# Altium schematic symbol library switch_ic_digital.SchLib: 5 symbols
Pins are listed as number, name and electrical type; pins without a type are passive.

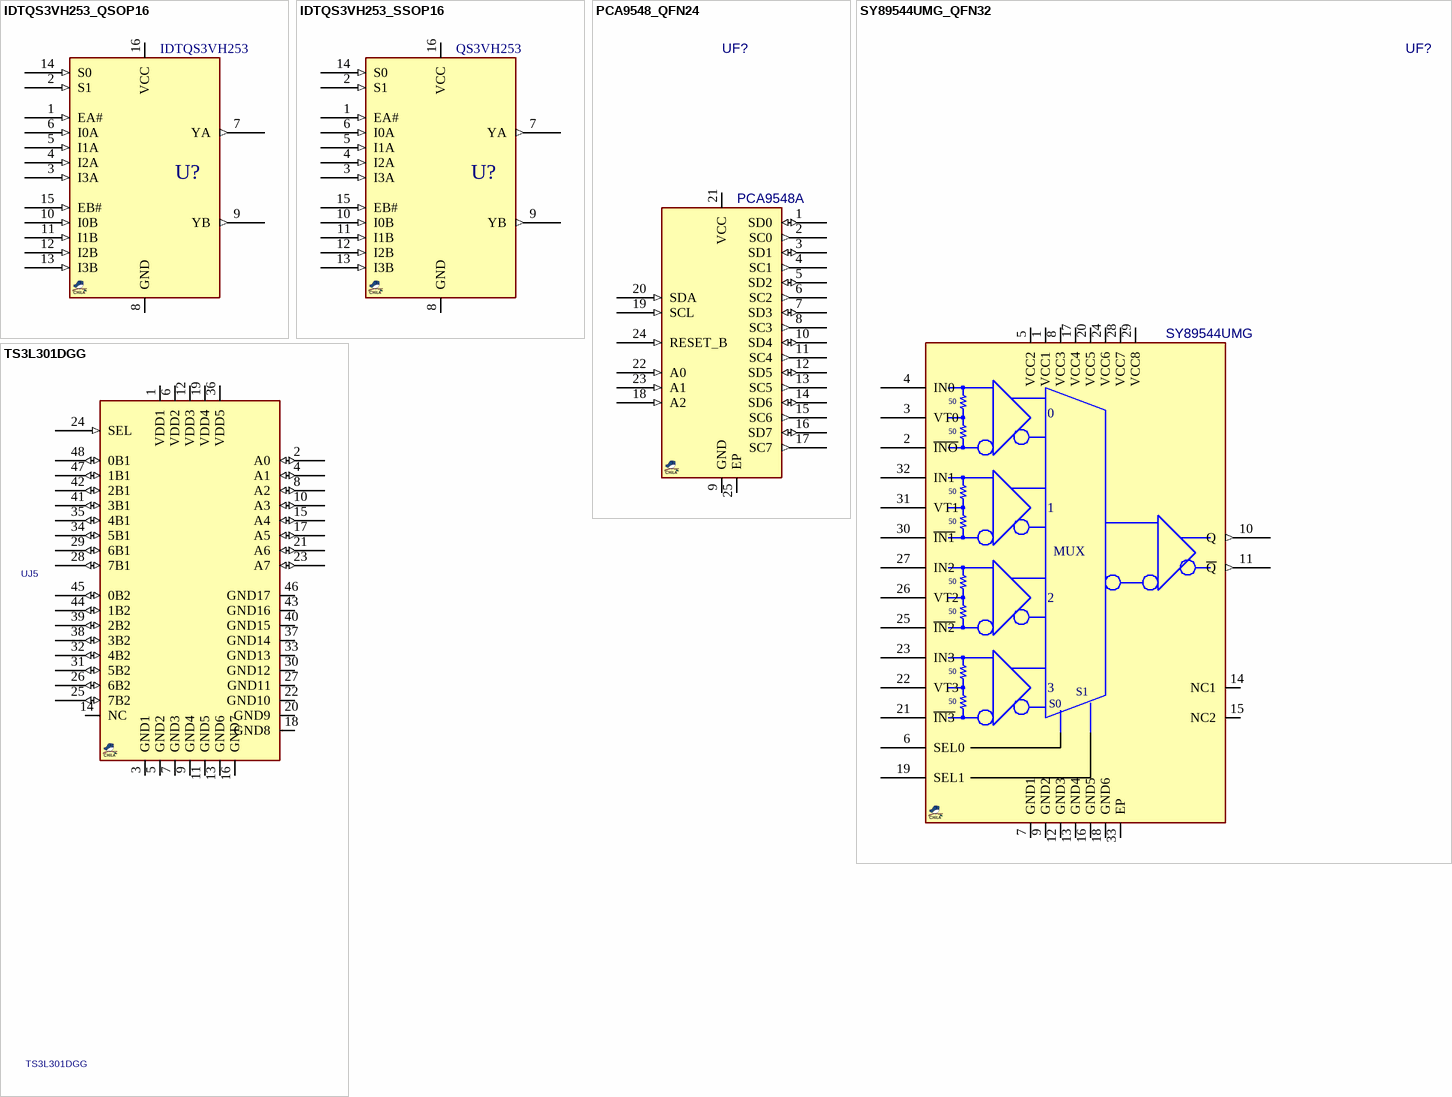
[diagram p0: symbols IDTQS3VH253_QSOP16 to TS3L301DGG]

## IDTQS3VH253_QSOP16
designator U?, comment IDTQS3VH253
IC, MUX/DEMUX, DUAL 4:1 , HIGH BANDWIDTH BUS SWITCH; MANF: IDT; MANF_P#: IDTQS3VH253QG8; DIST#: DIGIKEY, 800-1765-1-ND; PARAM2: 2.5/3.3V; PRICE: 1.6$; VALUE: IDTQS3VH253
footprint SOG63_16 (SOP DBQ, 16-Leads, Body 4.90x3.90mm, Pitch 0.635mm)
pins: 1 EA# (in), 2 S1 (in), 3 I3A (in), 4 I2A (in), 5 I1A (in), 6 I0A (in), 7 YA (out), 8 GND, 9 YB (out), 10 I0B (in), 11 I1B (in), 12 I2B (in), 13 I3B (in), 14 S0 (in), 15 EB# (in), 16 VCC

## IDTQS3VH253_SSOP16
designator U?, comment QS3VH253
IC, MUX/DEMUX, DUAL 4:1 , HIGH BANDWIDTH BUS SWITCH; MANF: IDT; MANF_P#: QS3VH253PAG; PARAM2: 2.5/3.3V; PARAM: 0.2ns PPD, -40~85oC; PRICE: 1.6$; VALUE: QS3VH253
footprint SOG65_16 (PW TSSOP (TI), MO-153-AB (JEDEC), 16Lead, pitch: 0.65mm, 5x4.4x1.2mm)
pins: 1 EA# (in), 2 S1 (in), 3 I3A (in), 4 I2A (in), 5 I1A (in), 6 I0A (in), 7 YA (out), 8 GND, 9 YB (out), 10 I0B (in), 11 I1B (in), 12 I2B (in), 13 I3B (in), 14 S0 (in), 15 EB# (in), 16 VCC

## PCA9548_QFN24
designator UF?, comment PCA9548A
IC, SWITCH, I2C, 8CH, W/RESET 24-QFN; MANF: TI; PARAM: 45Ohm Ron, -40~85oC; DESC: DESCRIPTION; MANF_P#: PCA9548ARGER; PARAM2: 2.3-5.5VCC, 1.8/2.5/3.3/5VI2C; ASSEMBLY: ASSEMBLY; PRICE: 3$; VALUE: PCA9548A
footprint QFN50_24T_S400
pins: 1 SD0 (io), 2 SC0 (out), 3 SD1 (io), 4 SC1 (out), 5 SD2 (io), 6 SC2 (out), 7 SD3 (io), 8 SC3 (out), 9 GND (power), 10 SD4 (io), 11 SC4 (out), 12 SD5 (io), 13 SC5 (out), 14 SD6 (io), 15 SC6 (out), 16 SD7 (io), 17 SC7 (out), 18 A2 (in), 19 SCL (in), 20 SDA (in), 21 VCC (power), 22 A0 (in), 23 A1 (in), 24 RESET_B (in), 25 EP (power)

## SY89544UMG_QFN32
designator UF?  value SY89544UMG  (hidden comment: SY89544UMG_QFN32)
IC, MUX, Diff-LVDS, 4to1; MANF: MICREL; DESC: DESCRIPTION; PARAM2: 2.5V; MANF_P#: SY89544UMG; PRICE: 4.495; ASSEMBLY: ASSEMBLY
footprint QFN50_32T (QFN, 32, 5X5mm, 0.5mm)
pins: 1 VCC1 (power), 2 ~{INO}, 3 VT0, 4 IN0, 5 VCC2 (power), 6 SEL0, 7 GND1 (power), 8 VCC3 (power), 9 GND2 (power), 10 Q (out), 11 ~{Q} (out), 12 GND3 (power), 13 GND4 (power), 14 NC1, 15 NC2, 16 GND5 (power), 17 VCC4 (power), 18 GND6 (power), 19 SEL1, 20 VCC5 (power), 21 ~{IN3}, 22 VT3, 23 IN3, 24 VCC6 (power), 25 ~{IN2}, 26 VT2, 27 IN2, 28 VCC7 (power), 29 VCC8 (power), 30 ~{IN1}, 31 VT1, 32 IN1, 33 EP (power)
text: 50; 0; MUX; S1; S0

## TS3L301DGG
designator UJ5
IC, SWITCH, GIGABIT LAN, SPDT, 16Bit-to-8Bit, TSSOP48; MANF: Texas Instruments; MANF_P#: TS3L301DGG; VALUE: TS3L301DGG
footprint SOG50_48T (TSSOP 6.1mm(MAXIM), MO-153-EDT (JEDEC), 48Lead, pitch: 0.5mm, 12.5x6.1x1.2mm)
pins: 1 VDD1 (power), 2 A0 (io), 3 GND1 (power), 4 A1 (io), 5 GND2 (power), 6 VDD2 (power), 7 GND3 (power), 8 A2 (io), 9 GND4 (power), 10 A3 (io), 11 GND5 (power), 12 VDD3 (power), 13 GND6 (power), 14 NC, 15 A4 (io), 16 GND7 (power), 17 A5 (io), 18 GND8 (power), 19 VDD4 (power), 20 GND9 (power), 21 A6 (io), 22 GND10 (power), 23 A7 (io), 24 SEL (in), 25 7B2 (io), 26 6B2 (io), 27 GND11 (power), 28 7B1 (io), 29 6B1 (io), 30 GND12 (power), 31 5B2 (io), 32 4B2 (io), 33 GND13 (power), 34 5B1 (io), 35 4B1 (io), 36 VDD5 (power), 37 GND14 (power), 38 3B2 (io), 39 2B2 (io), 40 GND15 (power), 41 3B1 (io), 42 2B1 (io), 43 GND16 (power), 44 1B2 (io), 45 0B2 (io), 46 GND17 (power), 47 1B1 (io), 48 0B1 (io)